# Altium footprint library Molex Micro-Fit.PcbLib: 19 footprints (part 2 of 2)
Each footprint in its own frame and in the unit in brackets; x right, y up, seen from the top. Pads: shape width x height; smd on the part's side, far side on the other; paste and mask are expansions set on the pad; w line width, h text height; cw(c..) or ccw(c..) is an arc to the next point about the centre after c.
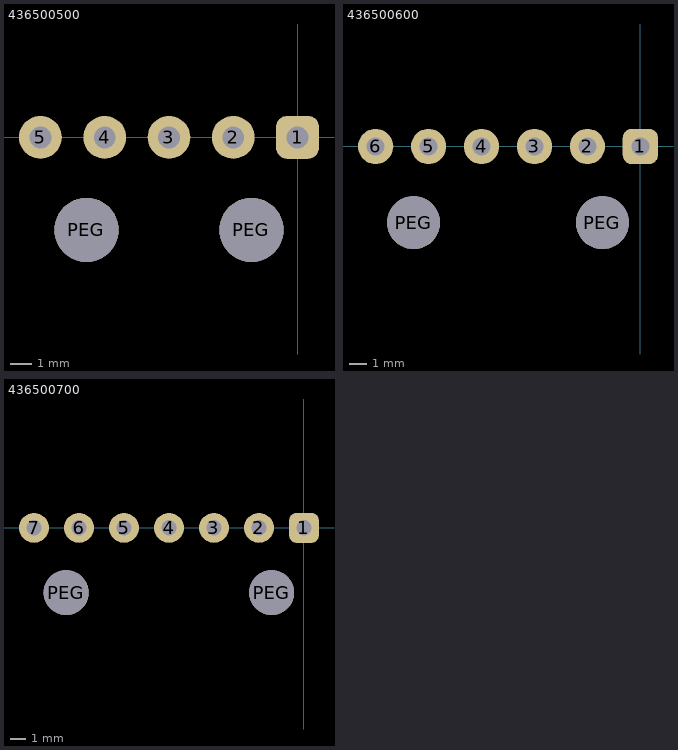
[diagram p1: the footprints below, top view; thin cyan lines are the x and y axes]

## 436500500 [mm]
pads (7):
  rrect50% 2x2 hole 1.02 paste-2539.97: 1(0,0)
  round 2 hole 1.02 paste-2539.97: 2(-3,0) 3(-6,0) 4(-9,0) 5(-12,0)
  round 3 hole 3 unplated: PEG(-9.85,-4.32) PEG(-2.15,-4.32)
3D body "436500500.stp": height 5.06, standoff -3.81, extent -15.32,-8.88 3.32,1.02

## 436500600 [mm]
pads (8):
  rrect50% 2x2 hole 1.02 paste-2539.97: 1(0,0)
  round 2 hole 1.02 paste-2539.97: 2(-3,0) 3(-6,0) 4(-9,0) 5(-12,0) 6(-15,0)
  round 3 hole 3 unplated: PEG(-12.85,-4.32) PEG(-2.15,-4.32)
3D body "436500600.stp": height 5.06, standoff -3.81, extent -18.32,-8.88 3.32,1.02

## 436500700 [mm]
pads (9):
  rrect50% 2x2 hole 1.02 paste-2539.97: 1(0,0)
  round 2 hole 1.02 paste-2539.97: 2(-3,0) 3(-6,0) 4(-9,0) 5(-12,0) 6(-15,0) 7(-18,0)
  round 3 hole 3 unplated: PEG(-15.85,-4.32) PEG(-2.15,-4.32)
3D body "436500700.stp": height 5.06, standoff -3.81, extent -21.32,-8.88 3.32,1.02